# Altium footprint library OSC-5.0X3.2.PcbLib: 1 footprints
Each footprint in its own frame and in the unit in brackets; x right, y up, seen from the top. Pads: shape width x height; smd on the part's side, far side on the other; paste and mask are expansions set on the pad; w line width, h text height; cw(c..) or ccw(c..) is an arc to the next point about the centre after c.
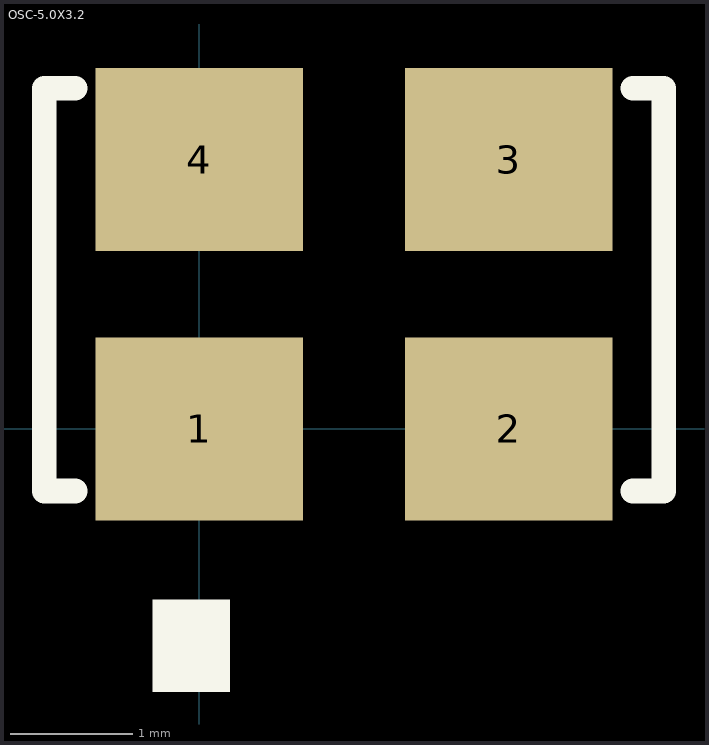
[diagram p0: the footprint, top view; thin cyan lines are the x and y axes]

## OSC-5.0X3.2 [mil]
pads (4):
  rect 67x59 smd: 1(0,0) 2(100,0) 3(100,87) 4(0,87)
Top Overlay:
  rectangle: -15,-85 10,-55
  lines w8: -40,-20 -50,-20 -50,110 -40,110 ; 140,-20 150,-20 150,110 140,110
3D body: height 39.37, standoff 0, extent -46.85,-17.99 150,107.99